# EAGLE library part MIC2260* (library bschulz)
MIC2260x - High Efficiency Synchronous Buck Converter Characteristics: Vin: 2.6V ~ 5.5V Vout: 0.7V ~ Vin Output Current (max): 6A IQ: 850μA (typ) Operating Temperature: -40°C to 85°C Digikey: 576-3645-1-ND <https://www.digikey.com/en/products/detail/microchip-technology/MIC22602YML-TR/2242451>
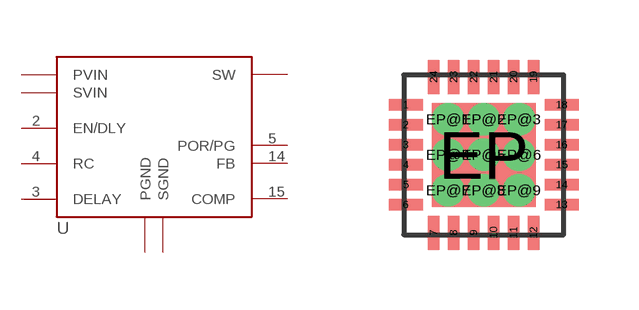
[diagram p165: symbol with the pads of QFN24_POWER; footprint QFN24_POWER]

Designator prefix U

## MIC2260 (MF: Microchip), MIC22602 (DIGIKEY: 576-3645-1-ND; DISP: MIC22602; MF: Microchip; MPN: MIC22602YML-TR)  [QFN24_POWER]
1  PVIN
2  EN/DLY
3  DELAY
4  RC
5  POR/PG
6  PVIN
7  PGND
8  SW
9  SW
10  SW
11  SW
12  PGND
13  PVIN
14  FB
15  COMP
16  SGND
17  SVIN
18  PVIN
19  PGND
20  SW
21  SW
22  SW
23  SW
24  PGND
EP  PGND
EP@1  PGND
EP@2  PGND
EP@3  PGND
EP@4  PGND
EP@5  PGND
EP@6  PGND
EP@7  PGND
EP@8  PGND
EP@9  PGND

## Footprint QFN24_POWER (pad centres in mm)
24 pin QFN package, with vias 4x4 mm size Reference <https://www.ti.com/lit/ds/symlink/bq25616.pdf?HQS=TI-null-null-digikeymode-df-pf-null-wwe&ts=1608221255424>
smd 0.85 x 0.28: 1 -1.95,1.25; 2 -1.95,0.75; 3 -1.95,0.25; 4 -1.95,-0.25; 5 -1.95,-0.75; 6 -1.95,-1.25; 13 1.95,-1.25; 14 1.95,-0.75; 15 1.95,-0.25; 16 1.95,0.25; 17 1.95,0.75; 18 1.95,1.25
smd 0.28 x 0.85: 7 -1.25,-1.95; 8 -0.75,-1.95; 9 -0.25,-1.95; 10 0.25,-1.95; 11 0.75,-1.95; 12 1.25,-1.95; 19 1.25,1.95; 20 0.75,1.95; 21 0.25,1.95; 22 -0.25,1.95; 23 -0.75,1.95; 24 -1.25,1.95
smd 2.6 x 2.6: EP 0,0
drill 0.3: EP@1 -0.889,0.889; EP@2 0,0.889; EP@3 0.889,0.889; EP@4 -0.889,0; EP@5 0,0; EP@6 0.889,0; EP@7 -0.889,-0.889; EP@8 0,-0.889; EP@9 0.889,-0.889